# Altium schematic symbol library TPS628122GQWRWYRQ1.SchLib: 1 symbol
Pins are listed as number, name and electrical type; pins without a type are passive.

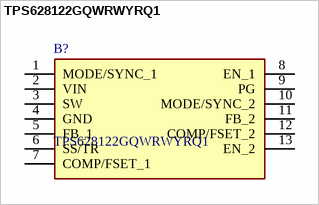
[diagram p0: symbol TPS628122GQWRWYRQ1]

## TPS628122GQWRWYRQ1
designator B?
Switching Voltage Regulators Automotive 2.75-V to 6-V, 2-A step-down converter in a 2mm x 3mm wettable-flanks QFN package 9-VQFN-HR -40 to 125; Manufacturer_Name: Texas Instruments; Geometry.Height: 1mm; Manufacturer_Part_Number: TPS628122GQWRWYRQ1; Mouser Part Number: 595-S628122GQWRWYRQ1; Mouser Price/Stock: https://www.mouser.co.uk/ProductDetail/Texas-Instruments/TPS628122GQWRWYRQ1?qs=GBLSl2Akirv%2FFCAUOFHZ8A%3D%3D; Arrow Part Number: TPS628122GQWRWYRQ1; Arrow Price/Stock: https://www.arrow.com/en/products/tps628122gqwrwyrq1/texas-instruments?region=nac; Datasheet Link: https://www.ti.com/lit/gpn/TPS62812-Q1
footprint TPS628122GQWRWYRQ1
pins: 1 MODE/SYNC_1, 2 VIN, 3 SW, 4 GND, 5 FB_1, 6 SS/TR, 7 COMP/FSET_1, 8 EN_1, 9 PG, 10 MODE/SYNC_2, 11 FB_2, 12 COMP/FSET_2, 13 EN_2